# EAGLE library part 0826-1G1T-23-F (library work)
RJ45-1000T
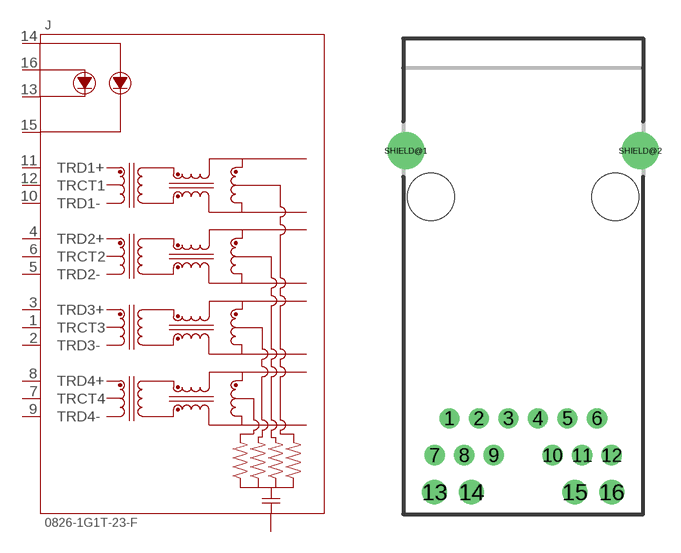
[diagram p68: symbol with the pads of 0826-1G1T-23-F; footprint 0826-1G1T-23-F]

Designator prefix J

## 0826-1G1T-23-F  [0826-1G1T-23-F]
1  TRCT3
2  TRD3-
3  TRD3+
4  TRD2+
5  TRD2-
6  TRCT2
7  TRCT4
8  TRD4+
9  TRD4-
10  TRD1-
11  TRD1+
12  TRCT1
13  LED1_CATHODE
14  LED1_ANODE
15  LED2_CATHODE
16  LED2_ANODE
SHIELD@1  SHIELD
SHIELD@2  SHIELD

## Footprint 0826-1G1T-23-F (pad centres in mm)
drill 0.889: 1 -5.08,-15.24; 2 -3.048,-15.24; 3 -1.016,-15.24; 4 1.016,-15.24; 5 3.048,-15.24; 6 5.08,-15.24; 7 -6.096,-17.78; 8 -4.064,-17.78; 9 -2.032,-17.78; 10 2.032,-17.78; 11 4.064,-17.78; 12 6.096,-17.78
drill 1.143: 13 -6.096,-20.32; 14 -3.556,-20.32; 15 3.556,-20.32; 16 6.096,-20.32
drill 1.575 pad 2.54: SHIELD@1 -8.065,3.175; SHIELD@2 8.065,3.175
hole 3.251 at 6.35,0
hole 3.251 at -6.35,0